# Altium schematic symbol library R-ERJ-1TYJ122U.Schlib: 1 symbol
Pins are listed as number, name and electrical type; pins without a type are passive.

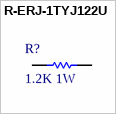
[diagram p0: symbol R-ERJ-1TYJ122U]

## R-ERJ-1TYJ122U
designator R?, comment 1.2K 1W
Thick Film Resistors - SMD 2512 1.2Kohms 5% Tolerance
pins: 1, 2